# Altium schematic symbol library 20210518.SchLib: 325 symbols (part 1 of 3)
Pins are listed as number, name and electrical type; pins without a type are passive.

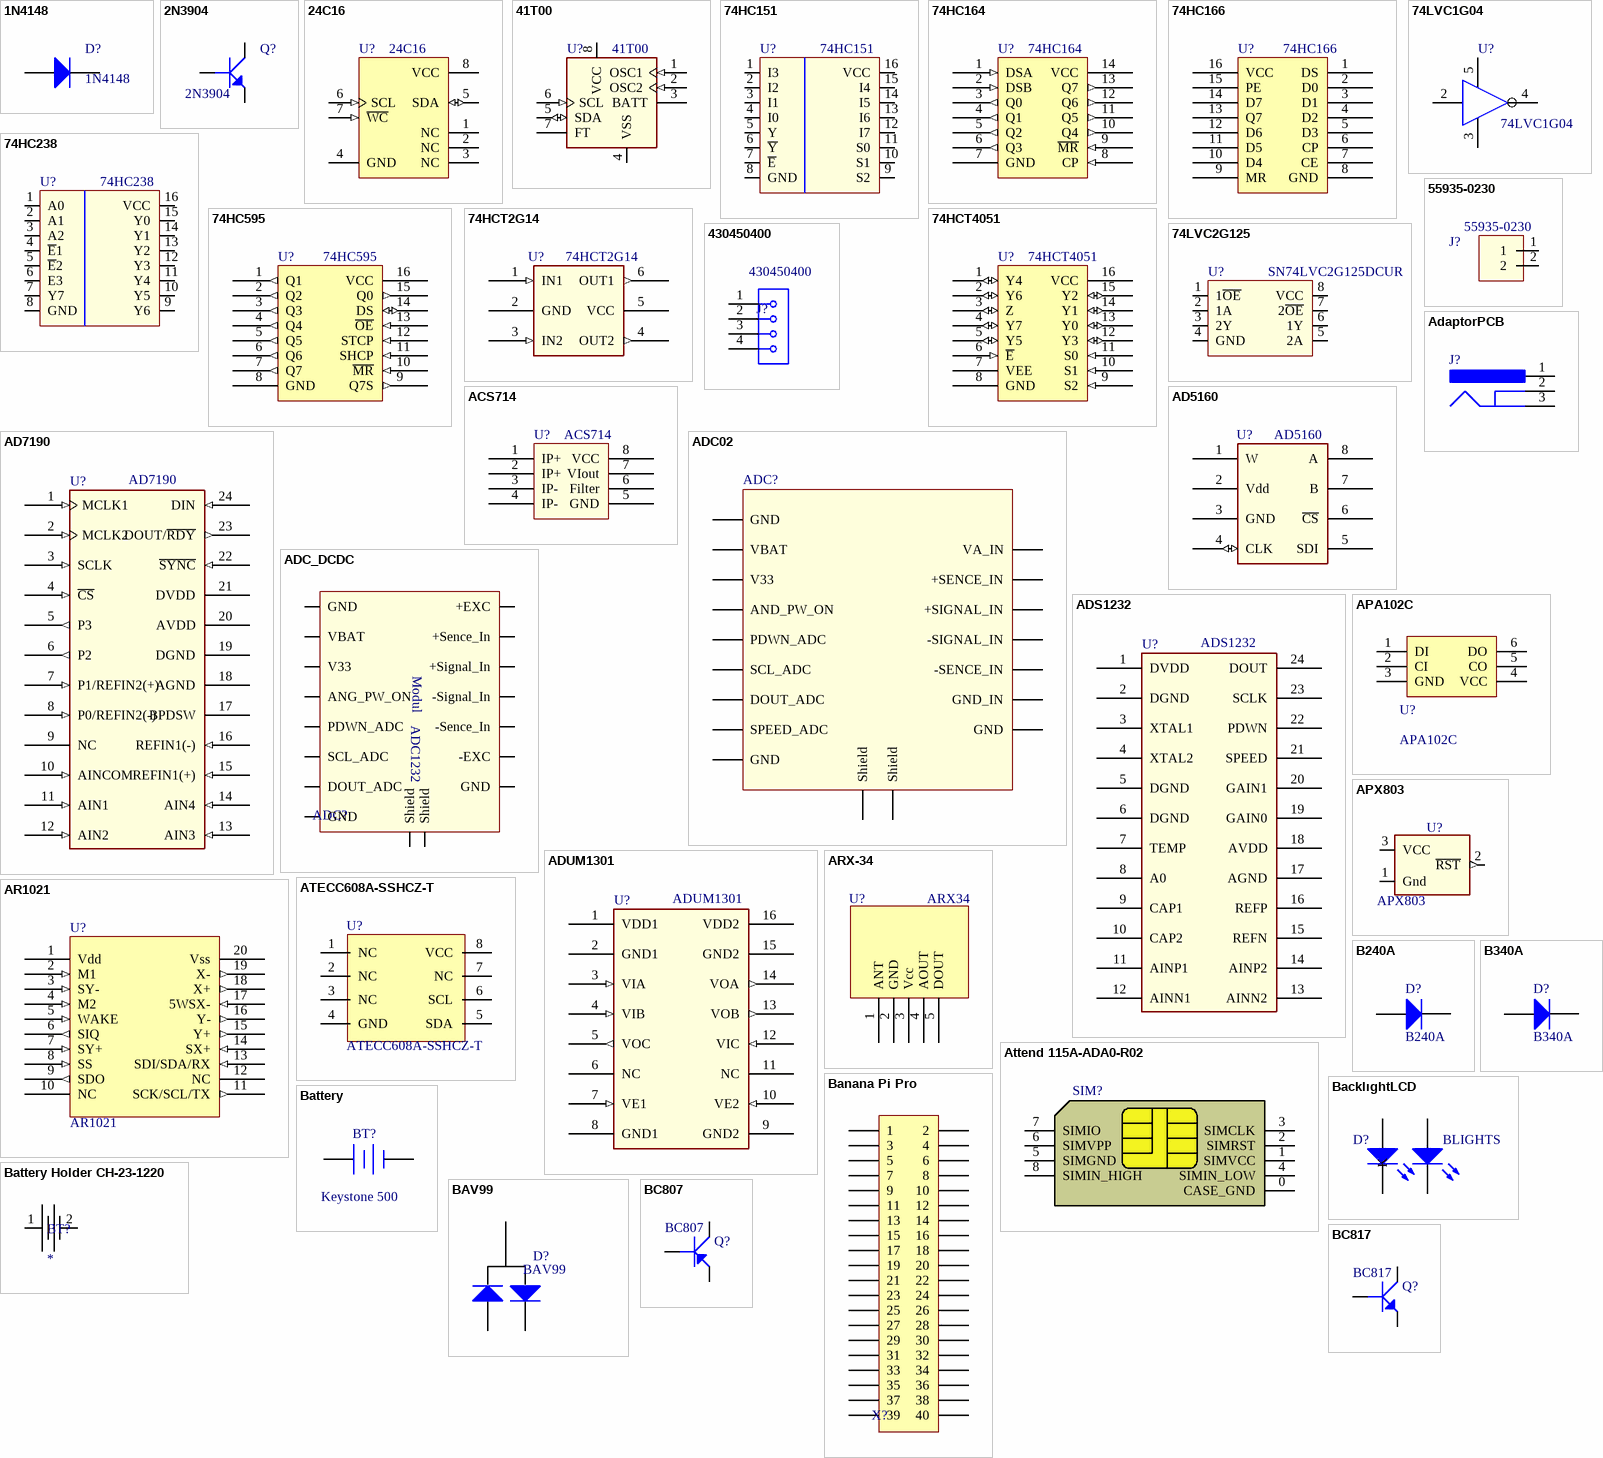
[diagram p0: symbols 1N4148 to BC817]

## 1N4148
designator D?
Diode, 1N4148; ComponentLink3Description: EDIY1N4148SMD; ComponentLink2Description: SMD; Value: 1N4148
simulation model DIODE (Diode)
signal-integrity model Diode
footprint MINIMELF (MELF Diode, 2-Leads, Body 3,5x1,5mm, IPC Low Density)
footprint DO-41 (Diode, Axial; Body 5.2 x 2.7 mm (LxDia. max), Lead Dia. 0.86 mm (max))
footprint SOD323 (SODFL, 2-Leads, Body 1,30x5,35mm, IPC Medium Density)
footprint SOD123
pins: 1 K, 2 A

## 2N3904
designator Q?
Transistor, 2N3904; ComponentLink3Description: ETR2N3904; ComponentLink2Description: AX; Value: 2N3904
footprint TO-92 (TO-92; 3 In-Line, Axial Leads; Body Dia. 4.8mm; Leads 0.55 x 0.51 mm (max))
pins: 1 E, 2 B, 3 C

## 24C16
designator U?
16Kbit Serial I²C Bus EEPROM; Producer: ST; ComponentLink2Description: SMD; ComponentLink3Description: EIC24C16SMD; Value: 24C16
footprint SOIC8 (SOIC, 8-Leads, Body 5,0x4,0mm (max), Pitch 1,27mm, IPC Low Density)
pins: 1 NC, 2 NC, 3 NC, 4 GND (power), 5 SDA (io), 6 SCL (in), 7 ~{WC} (in), 8 VCC (power)

## 41T00
designator U?
Real Time Clock; Producer: ST; ComponentLink2Description: SMD; ComponentLink3Description: EIC41T00SMD; Value: 41T00
footprint SOIC8 (SOIC, 8-Leads, Body 5,0x4,0mm (max), Pitch 1,27mm, IPC Low Density)
pins: 1 OSC1 (in), 2 OSC2 (in), 3 BATT (power), 4 VSS (power), 5 SDA (io), 6 SCL (in), 7 FT, 8 VCC (power)

## 74HC151
designator U?
8-input multiplexer; Producer: NXP; ComponentLink2Description: SMD; Datasheet: http://cache.nxp.com/documents/data_sheet/74HC_HCT151_Q100.pdf?pspll=1; Value: 74HC151
footprint TSSOP16 (TSSOP, 16-Leads, Body 5,00x4,40mm, Pitch 0,65mm, IPC Medium Density)
pins: 1 I3, 2 I2, 3 I1, 4 I0, 5 Y, 6 ~{Y}, 7 ~{E}, 8 GND, 9 S2, 10 S1, 11 S0, 12 I7, 13 I6, 14 I5, 15 I4, 16 VCC

## 74HC164
designator U?
8-bit serial-in, parallel-out shift register; Value: 74HC164
footprint SOIC14 (SOIC, 14-Leads, Body 8,8x4,0mm (max), Pitch 1,27mm, IPC Low Density)
pins: 1 DSA (in), 2 DSB (in), 3 Q0 (out), 4 Q1 (out), 5 Q2 (out), 6 Q3 (out), 7 GND (power), 8 CP (in), 9 ~{MR} (in), 10 Q4 (out), 11 Q5 (out), 12 Q6 (out), 13 Q7 (out), 14 VCC (power)

## 74HC166
designator U?
Shift Register; Tip: SMD; ComponentLink2Description: SMD; ComponentLink3Description: EIC74HC166SMD; Value: 74HC166
footprint SOIC16 (SOIC, 16-Leads, Body 10,0x4,0mm (max), Pitch 1,27mm, IPC Low Density)
pins: 1 DS, 2 D0, 3 D1, 4 D2, 5 D3, 6 CP, 7 CE, 8 GND, 9 MR, 10 D4, 11 D5, 12 D6, 13 Q7, 14 D7, 15 PE, 16 VCC

## 74HC238
designator U?
3-to-8 line decoder/demultiplexer; Producer: NXP; ComponentLink2Description: SMD; Datasheet: http://www.nxp.com/documents/data_sheet/74HC_HCT238.pdf; Value: 74HC238
footprint TSSOP16 (TSSOP, 16-Leads, Body 5,00x4,40mm, Pitch 0,65mm, IPC Medium Density)
pins: 1 A0, 2 A1, 3 A2, 4 ~{E}1, 5 ~{E}2, 6 E3, 7 Y7, 8 GND, 9 Y6, 10 Y5, 11 Y4, 12 Y3, 13 Y2, 14 Y1, 15 Y0, 16 VCC

## 74HC595
designator U?
8-bit serial-in, serial or parallel-out shift register with output latches; Value: 74HC595
footprint SOIC16 (SOIC, 16-Leads, Body 10,0x4,0mm (max), Pitch 1,27mm, IPC Low Density)
pins: 1 Q1 (out), 2 Q2 (out), 3 Q3 (out), 4 Q4 (out), 5 Q5 (out), 6 Q6 (out), 7 Q7 (out), 8 GND (power), 9 Q7S (out), 10 ~{MR} (in), 11 SHCP (in), 12 STCP (in), 13 ~{OE} (in), 14 DS (io), 15 Q0 (out), 16 VCC (power)

## 74HCT2G14
designator U?
Dual Inverter with Schmitt-Trigger; ComponentLink2Description: SMD; Link: https://assets.nexperia.com/documents/data-sheet/74HC_HCT2G14.pdf; Value: 74HCT2G14
footprint SOT23-6 (SOT23, 6-Leads, Body 3,0x3,0mm (max), Pitch 0,95mm, IPC Low Density)
pins: 1 IN1 (in), 2 GND (power), 3 IN2 (in), 4 OUT2 (out), 5 VCC (power), 6 OUT1 (out)

## 74HCT4051
designator U?
8-channel analog multiplexer/demultiplexer; Value: 74HCT4051
footprint SOIC16 (SOIC, 16-Leads, Body 10,0x4,0mm (max), Pitch 1,27mm, IPC Low Density)
pins: 1 Y4 (io), 2 Y6 (io), 3 Z (io), 4 Y7 (io), 5 Y5 (io), 6 ~{E} (in), 7 VEE (power), 8 GND (power), 9 S2 (in), 10 S1 (in), 11 S0 (in), 12 Y3 (io), 13 Y0 (io), 14 Y1 (io), 15 Y2 (io), 16 VCC (power)

## 74LVC1G04
designator U?
Single Inverter Gate; Producer: TI; ComponentLink2Description: SMD; Value: 74LVC1G04
pins: 1 NC hidden, 2 A (hiz), 3 GND (power), 4 Y (hiz), 5 VCC (power)

## 74LVC2G125
designator U?, comment SN74LVC2G125DCUR
IC BUFFER NON-INVERT 5.5V US8; Manufacturer Part Number: SN74LVC2G125DCUR
footprint DCU (S-PDSO-G8) (PowerPAD PLASTIC  SMALL OUTLINE)
pins: 1 1~{OE}, 2 1A, 3 2Y, 4 GND, 5 2A, 6 1Y, 7 2~{OE}, 8 VCC

## 55935-0230
designator J?
Connector Header Through Hole, Right Angle 2 position 0.079" (2.00mm)
footprint 55935-0230
pins: 1, 2

## 430450400
designator J?
Connector Header Through Hole, Right Angle 4 position 0.118" (3.00mm)
footprint 0430450400
pins: 1, 2, 3, 4

## ACS714
designator U?
Linear Hall Effect Current Sensor 5A; ComponentLink2Description: SMD; ComponentLink3Description: *; Value: ACS714
footprint SOIC8 (SOIC, 8-Leads, Body 5,0x4,0mm (max), Pitch 1,27mm, IPC Low Density)
pins: 1 IP+, 2 IP+, 3 IP-, 4 IP-, 5 GND, 6 Filter, 7 VIout, 8 VCC

## AD5160
designator U?
Analog Devices SPI Digital Potentiometer; ComponentLink2Description: SMD; Value: AD5160
footprint SOT23-8 (SOT 8-Leads, Body 2,90x1,60mm, Pitch 1,27mm, IPC Medium Density)
pins: 1 W, 2 Vdd (power), 3 GND (power), 4 CLK (io), 5 SDI (power), 6 ~{CS} (power), 7 B, 8 A

## AD7190
designator U?
24bit Sigma Delta ADC; Producer: Analog Devices; ComponentLink2Description: SMD; Value: AD7190
footprint TSOP24 (TSOP, 24-Leads, Body 7,9x4,5mm (max), Pitch 0,65mm, IPC Low Density)
pins: 1 MCLK1 (in), 2 MCLK2 (in), 3 SCLK (in), 4 ~{CS} (in), 5 P3 (out), 6 P2 (out), 7 P1/REFIN2(+) (in), 8 P0/REFIN2(-) (in), 9 NC, 10 AINCOM (in), 11 AIN1 (in), 12 AIN2 (in), 13 AIN3 (in), 14 AIN4 (in), 15 REFIN1(+) (in), 16 REFIN1(-) (in), 17 BPDSW (power), 18 AGND (power), 19 DGND (power), 20 AVDD (power), 21 DVDD (power), 22 ~{SYNC} (in), 23 DOUT/~{RDY} (out), 24 DIN (in)

## AdaptorPCB
designator J?
footprint AdaptorPCB (THD, 3-Leads)
pins: 1, 2, 3

## ADC02
designator ADC?
TEM ADC Modülü; Producer: TEM Terazi; ComponentLink2Description: DIP
footprint ADS1232-g318 (TEM Terazi ADC Modülü)
footprint ADS1232-g318 - 1mm (TEM Terazi ADC Modülü)
pins: 1 GND, 2 VBAT, 3 V33, 4 AND_PW_ON, 5 PDWN_ADC, 6 SCL_ADC, 7 DOUT_ADC, 8 SPEED_ADC, 9 GND, 10 GND, 11 GND_IN, 12 -SENCE_IN, 13 -SIGNAL_IN, 14 +SIGNAL_IN, 15 +SENCE_IN, 16 VA_IN, 17 Shield, 18 Shield

## ADC_DCDC
designator ADC?  (value not drawn)
ADC_DCDC Modulü; Producer: TEM; Value: ADC_DCDC; ComponentLink2Description: AX; DataSheet: -
footprint ADC_DCDC (ADC_DCDC Modulü Oval)
pins: 1 GND, 2 VBAT, 3 V33, 4 ANG_PW_ON, 5 PDWN_ADC, 6 SCL_ADC, 7 DOUT_ADC, 8 GND, 9 Shield, 10 Shield, 11 +EXC, 12 +Sence_In, 13 +Signal_In, 14 -Signal_In, 15 -Sence_In, 16 -EXC, 17 GND
text: Modul; ADC1232

## ADS1232
designator U?
24bit Sigma Delta ADC; Producer: Texas Inst.; ComponentLink3Description: EICADS1232; ComponentLink2Description: SMD; Value: ADS1232
footprint TSOP24 (TSOP, 24-Leads, Body 7,9x4,5mm (max), Pitch 0,65mm, IPC Low Density)
pins: 1 DVDD (power), 2 DGND (power), 3 XTAL1, 4 XTAL2, 5 DGND (power), 6 DGND (power), 7 TEMP, 8 A0, 9 CAP1, 10 CAP2, 11 AINP1, 12 AINN1, 13 AINN2, 14 AINP2, 15 REFN, 16 REFP, 17 AGND (power), 18 AVDD (power), 19 GAIN0, 20 GAIN1, 21 SPEED, 22 PDWN, 23 SCLK, 24 DOUT

## ADUM1301
designator U?
Triple-Channel Digital Isolator; Producer: Analog Devices; ComponentLink3Description: EICADUM1301; ComponentLink2Description: SMD; Value: ADUM1301
footprint SOIC16W (SOIC, 16-Leads, Body 10.5x7.6mm (max), Pitch 1.27mm, IPC Medium Density)
pins: 1 VDD1 (power), 2 GND1 (power), 3 VIA (in), 4 VIB (in), 5 VOC (out), 6 NC, 7 VE1 (in), 8 GND1 (power), 9 GND2 (power), 10 VE2 (in), 11 NC, 12 VIC (in), 13 VOB (out), 14 VOA (out), 15 GND2 (power), 16 VDD2 (power)

## APA102C
designator U?
RGB Full Color LED control IC
footprint SMD LX5050RGB
pins: 1 DI, 2 CI, 3 GND, 4 VCC, 5 CO, 6 DO

## APX803
designator U?
3.3V Reset entegresi; ComponentLink3Description: EICAPX803; ComponentLink2Description: SMD; Value: APX803
footprint SOT23-3 (SOT23, 3-Leads, Body 3,0x2,5mm (max), Pitch 0,95mm, IPC Low Density)
pins: 1 Gnd (power), 2 ~{RST} (out), 3 VCC

## AR1021
designator U?
Resistive Touch Screen Controller; Value: AR1021
pins: 1 Vdd (power), 2 M1 (in), 3 SY- (in), 4 M2 (in), 5 WAKE (in), 6 SIQ (out), 7 SY+ (in), 8 SS (in), 9 SDO (out), 10 NC, 11 SCK/SCL/TX (out), 12 NC, 13 SDI/SDA/RX (in), 14 SX+ (in), 15 Y+ (out), 16 Y- (out), 17 5WSX- (in), 18 X+ (out), 19 X- (out), 20 Vss (power)

## ARX-34
designator U?, comment ARX34
UDEA Receiver; ComponentLink2Description: AX; ComponentLink3Description: *; Value: ARX34
footprint ARX-34 (Udea ARX-34, 0.54mm)
pins: 1 ANT, 2 GND, 3 Vcc, 4 AOUT, 5 DOUT

## ATECC608A-SSHCZ-T
designator U?
Authentication Chip 8-SOIC
footprint SOIC8 (SOIC, 8-Leads, Body 5,0x4,0mm (max), Pitch 1,27mm, IPC Low Density)
pins: 1 NC, 2 NC, 3 NC, 4 GND, 5 SDA (oc), 6 SCL, 7 NC, 8 VCC

## Attend 115A-ADA0-R02
designator SIM?, comment SIM Connector - Push/Push - Attend 115A-ADA0-R02  (value not drawn)
footprint Push Push SIM Holder (Attend Push Push Type SIM Holder)
pins: 0 CASE_GND, 1 SIMVCC, 2 SIMRST, 3 SIMCLK, 4 SIMIN_LOW, 5 SIMGND, 6 SIMVPP, 7 SIMIO, 8 SIMIN_HIGH

## B240A
designator D?
DIODE SCHOTTKY 40V 2A SOD123F
footprint SOD123F
pins: 1, 2

## B340A
designator D?
DIODE SCHOTTKY 40V 3A SMA
footprint DO-214AC-SMA (No Polarity)
pins: 1, 2

## BacklıghtLCD
designator D?, comment BLIGHTS
LCD18-6D_BLAZE Numune gelenler; ComponentLink2Description: AX; ComponentLink3Description: *
footprint BLight_Blaze (Blaze'den gelen numune backlight)
footprint BACKLIGHT_EKO (BackLight - EKO)
pins: 1 A, 2 K, 3 K, 4 A

## Banana Pi Pro
designator X?, comment Banana PRO  (value not drawn)
Banana Pro GPIO  with 3D Model; Value: Banana PRO
footprint Banana Pi Pro
pins: 1, 2, 3, 4, 5, 6, 7, 8, 9, 10, 11, 12, 13, 14, 15, 16, 17, 18, 19, 20, 21, 22, 23, 24, 25, 26, 27, 28, 29, 30, 31, 32, 33, 34, 35, 36, 37, 38, 39, 40

## Battery
designator BT?, comment Keystone 500
Multicell Battery; Producer: Keystone; ComponentLink3Description: EKONPILBUTON; ComponentLink2Description: AX; Value: Keystone 500
footprint BAT_HLD_500 (Battery Holder, Keystone 500)
pins: 1 -, 2 +

## Battery Holder CH-23-1220
designator BT?
footprint BAT_HLD_2032 (Battery Holder (Open) Coin, 20.0mm 1 Cell PC Pin)
pins: 1 +, 2 -

## BAV99
designator D?
Small Signal Diode; Value: BAV99
footprint SOT23-3 (SOT23, 3-Leads, Body 3,0x2,5mm (max), Pitch 0,95mm, IPC Low Density)
pins: 1 A, 2 K, 3

## BC807
designator Q?
Transistor, BC807; ComponentLink2Description: SMD; ComponentLink3Description: ETRBC807; Value: BC807
footprint SOT23-3 (SOT23, 3-Leads, Body 3,0x2,5mm (max), Pitch 0,95mm, IPC Low Density)
pins: 1 B, 2 E, 3 C

## BC817
designator Q?
Transistor, BC817; ComponentLink2Description: SMD; ComponentLink3Description: ETRBC817; Value: BC817
footprint SOT23-3 (SOT23, 3-Leads, Body 3,0x2,5mm (max), Pitch 0,95mm, IPC Low Density)
pins: 1 B, 2 E, 3 C

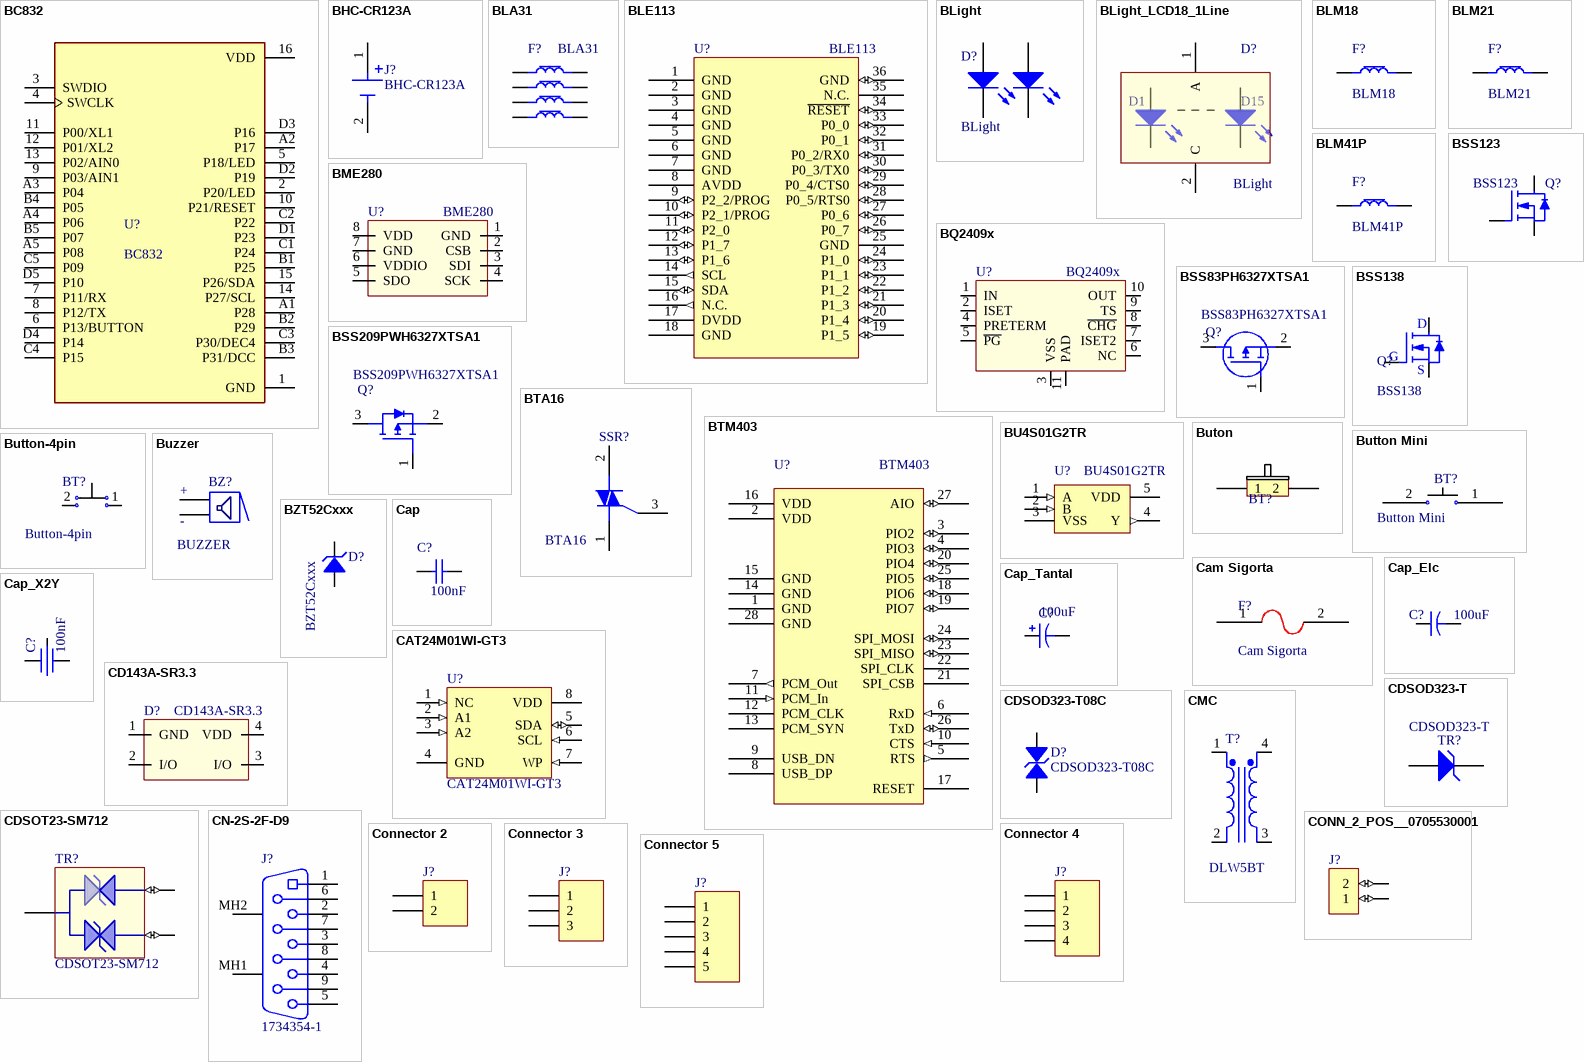
[diagram p1: symbols BC832 to Connector 5]

## BC832
designator U?
Bluetooth Bluetooth v5.0 Transceiver Module 2.4GHz Integrated, Chip Surface Mount
footprint BC832 (Bluetooth Bluetooth v5.0 Transceiver Module 2.4GHz Integrated, Chip Surface Mount)
pins: 1 GND (power), 2 P20/LED (oc), 3 SWDIO (oc), 4 SWCLK (oc), 5 P18/LED (oc), 6 P13/BUTTON (oc), 7 P11/RX (oc), 8 P12/TX (oc), 9 P03/AIN1 (oc), 10 P21/RESET (oc), 11 P00/XL1 (oc), 12 P01/XL2 (oc), 13 P02/AIN0 (oc), 14 P27/SCL (oc), 15 P26/SDA (oc), 16 VDD (power), A1 P28 (oc), A2 P17 (oc), A3 P04 (oc), A4 P06 (oc), A5 P08 (oc), B1 P25 (oc), B2 P29 (oc), B3 P31/DCC (oc), B4 P05 (oc), B5 P07 (oc), C1 P24 (oc), C2 P22 (oc), C3 P30/DEC4 (oc), C4 P15 (oc), C5 P09 (oc), D1 P23 (oc), D2 P19 (oc), D3 P16 (oc), D4 P14 (oc), D5 P10 (oc)

## BHC-CR123A
designator J?
Battery Holder (Open) CR123A 1 Cell PC Pin
footprint BHC-CR123A (Battery Holder (Open) CR123A 1 Cell PC Pin)
pins: 1 +, 2 -

## BLA31
designator F?
Ferrite Bead x 4, BLA31; Producer: Murata; ComponentLink2Description: SMD; ComponentLink3Description: EEMCBLA31; Value: BLA31
footprint Fx4.1206 (4xFerrite Berad, Body 3.2x1.6mm, IPC High Density)
pins: 1, 2, 3, 4, 5, 6, 7, 8

## BLE113
designator U?
Bluegiga Bluetooth Low Energy Module; Value: BLE113
footprint BLE113
pins: 1 GND (power), 2 GND (power), 3 GND (power), 4 GND (power), 5 GND (power), 6 GND (power), 7 GND (power), 8 AVDD (power), 9 P2_2/PROG (io), 10 P2_1/PROG (io), 11 P2_0 (io), 12 P1_7 (io), 13 P1_6 (io), 14 SCL (out), 15 SDA (io), 16 N.C. (out), 17 DVDD (power), 18 GND (power), 19 P1_5 (io), 20 P1_4 (io), 21 P1_3 (io), 22 P1_2 (io), 23 P1_1 (io), 24 P1_0 (io), 25 GND (power), 26 P0_7 (io), 27 P0_6 (io), 28 P0_5/RTS0 (io), 29 P0_4/CTS0 (io), 30 P0_3/TX0 (io), 31 P0_2/RX0 (io), 32 P0_1 (io), 33 P0_0 (io), 34 ~{RESET} (io), 35 N.C., 36 GND (io)

## BLight
designator D?
Numune backlight; Tip: Axial; TemKodu: *; Value: BLight
footprint BLight (pazarcı tipi ile gelen)
footprint BLight (pazarcı tipi ile gelen)
pins: 1 A, 2 C, 3 A, 4 C

## BLight_LCD18_1Line
designator D?, comment BLight
LCD18D_1Line BackLight; Tip: Axial; TemKodu: *; Value: BLight
footprint BLight (pazarcı tipi ile gelen)
footprint BLight (pazarcı tipi ile gelen)
pins: 1 A, 2 C
text: D1; D15

## BLM18
designator F?
Ferrite Bead, BLM18; Producer: Murata; ComponentLink2Description: SMD; ComponentLink3Description: EEMCBLM18; Value: BLM18
footprint L.0603 (Ferrite Bead, Body 1.6x0.8mm, IPC High Density)
pins: 1, 2

## BLM21
designator F?
Ferrite Bead, BLM21; Producer: Murata; ComponentLink2Description: SMD; ComponentLink3Description: EEMCBLM21; Value: BLM21
footprint F.0805 (Ferrite Bead, Body 2.0x1.3mm, IPC High Density)
pins: 1, 2

## BLM41P
designator F?
Ferrite Bead, BLM41P; Producer: Murata; ComponentLink2Description: SMD; ComponentLink3Description: EEMCBLM41; Value: BLM41P
footprint F.1806 (Ferrite Bead, Body 4.5x1.6mm, IPC High Density)
pins: 1, 2

## BME280
designator U?
Combined humidity and pressure sensor; Datasheet: https://ae-bst.resource.bosch.com/media/_tech/media/datasheets/BST-BME280-DS002.pdf; Mouser: https://eu.mouser.com/ProductDetail/Bosch-Sensortec/BME280?qs=2OnyuXx6vpj2fK9HX7qb3g%3D%3D
footprint BME280
pins: 1 GND, 2 CSB, 3 SDI, 4 SCK, 5 SDO, 6 VDDIO, 7 GND, 8 VDD

## BQ2409x
designator U?
Single-Input, Single Cell Li-Ion and Li-Pol Battery Charger; Producer: Texas Instruments; ComponentLink2Description: SMD; Datasheet: http://www.ti.com/lit/ds/symlink/bq24092.pdf; Value: BQ2409x
footprint MSOP-Power Pad
footprint MSOP-Power Pad
pins: 1 IN, 2 ISET, 3 VSS, 4 PRETERM, 5 ~{PG}, 6 NC, 7 ISET2, 8 ~{CHG}, 9 TS, 10 OUT, 11 PAD

## BSS83PH6327XTSA1
designator Q?
P-Channel 60V 330mA (Ta) 360mW (Ta) Surface Mount SOT-23-3
footprint SOT23-3_SC70-3 (SOT23, 3-Leads, Body 3,0x2,5mm (max), Pitch 0,95mm, IPC Low Density)
pins: 1 G (oc), 2 S (oc), 3 D (oc)

## BSS123
designator Q?
N Channel MOSFET; Producer: Diodes Inc.; ComponentLink2Description: SMD; ComponentLink3Description: ETRDMP2305U; Value: BSS123
footprint SOT23-3 (SOT23, 3-Leads, Body 3,0x2,5mm (max), Pitch 0,95mm, IPC Low Density)
pins: 1 G, 2 S, 3 D

## BSS138
designator Q?
N-Channel Logic Level Enhancement Mode Field Effect Transistor; Producer: FAIRCHILD; ComponentLink2Description: SMD; Datasheet: http://www.mouser.com/ds/2/149/BSS138-39381.pdf; Value: BSS138
footprint SOT23-3 (SOT23, 3-Leads, Body 3,0x2,5mm (max), Pitch 0,95mm, IPC Low Density)
pins: 1 G, 2 S, 3 D

## BSS209PWH6327XTSA1
designator Q?
P-Channel 20 V 630mA (Tc) 300mW (Ta) Surface Mount PG-SOT323-3
footprint SOT23-3_SC70-3 (SOT23, 3-Leads, Body 3,0x2,5mm (max), Pitch 0,95mm, IPC Low Density)
pins: 1 G (oc), 2 S (oc), 3 D (oc)

## BTA16
designator SSR?
Triac; ComponentLink2Description: AX; ComponentLink3Description: ETACBTA16; Value: BTA16
footprint TO220 - yatik
pins: 1 M1, 2 M2, 3 G

## BTM403
designator U?
FlairComm Bluetooth Module; Producer: FlairComm; ComponentLink2Description: SMD; Value: BTM403
footprint BTM403 (Bluetooth Module)
pins: 1 GND (power) "Digital Ground", 2 VDD (power) "Digital Power", 3 PIO2 (io) "I/O", 4 PIO3 (io) "I/O", 5 RTS (out) "Uart RTS", 6 RxD (in) "Uart RxD", 7 PCM_Out (out) "Uart TxD", 8 USB_DP, 9 USB_DN, 10 CTS (in) "Uart CTS", 11 PCM_In (in) "PCM  IN", 12 PCM_CLK, 13 PCM_SYN, 14 GND (power) "Ground", 15 GND (power), 16 VDD (power), 17 RESET (oc), 18 PIO6 (io), 19 PIO7 (io), 20 PIO4 (io), 21 SPI_CSB, 22 SPI_CLK, 23 SPI_MISO (io), 24 SPI_MOSI (io), 25 PIO5 (io) "SPI_MOSI", 26 TxD (io) "I/O", 27 AIO (io) "Analog I/O", 28 GND (power) "Ground"

## BU4S01G2TR
designator U?
2Input 1Output NOR Gate; Producer: ROHM; ComponentLink2Description: SMD; Value: BU4S01G2TR
footprint SOT23-5 (SOT23, 5-Leads, Body 3,0x3,0mm (max), Pitch 0,95mm, IPC Low Density)
pins: 1 A (in), 2 B (in), 3 VSS (power), 4 Y (out), 5 VDD (power)

## Buton
designator BT?  (value not drawn)
Connector, 2-Pin; Value: Buton; ComponentLink2Description: AX
pins: 1, 2

## Button Mini
designator BT?
Mini Buton; ComponentLink3Description: EBUTONHAYKAS; ComponentLink2Description: AX; Value: Button Mini
footprint Button_Mini
footprint Tactile Button 3
footprint Tactile Button 4 (TMG-325R SWITCH TACT 3.70x6.00 2.50mm 260gF SMT V/T)
pins: 1, 2

## Button-4pin
designator BT?
Tactile Switch 4-Pin; ComponentLink2Description: AX; Value: Button-4pin
footprint Button-4pin (4pin EKO'da kullanılan Buton)
footprint Button-4pin-6mm (6mm*6mm button)
pins: 1, 2, 3 hidden, 4 hidden

## Buzzer
designator BZ?, comment BUZZER
Magnetic Transducer Buzzer; ComponentLink2Description: AX; Value: BUZZER
footprint STD_RAD_10PX1HLX22DX8.5 (Standard Radial, 10mm pin space, 1mm Hole, 22mm diametre, 8.5mm height)
footprint Buzzer_DC_AI-1223-TWT-3V-2-R (AUDIO MAGNETIC INDICATOR 2-4V TH)
footprint Buzzer_DC_GT-111P (AUDIO MAGNETIC XDCR 1-4V TH)
pins: 1, 2
1 alternate drawing of the same symbol
text: +; -

## BZT52Cxxx
designator D?
500mV Zener Diode
footprint SOD123
pins: 1 T1, 2 T2

## Cam Sigorta
designator F?
2A Cam Sigorta; ComponentLink2Description: AX; ComponentLink3Description: ESICAM2A250V; Value: Cam Sigorta
footprint fuse
pins: 1, 2

## Cap
designator C?, comment 100nF
Capacitor, non polarized; ComponentLink2Description: SMD; ComponentLink3Description: EC0100NSSMD; Value: 100nF
simulation model CAP (Capacitor)
signal-integrity model Cap
footprint C.0603 (Chip Capacitor, Body 1.6x0.8mm, IPC High Density)
footprint C.0805 (Chip Capacitor, Body 2.0x1.3mm, IPC High Density)
footprint C.1210M (Chip Capacitor, Body 3.2x2.5mm, IPC Low Density)
footprint C.1210L (Chip Capacitor, Body 3.2x2.5mm, IPC High Density)
footprint C.1210N (Chip Capacitor, Body 3.2x2.5mm, IPC Medium Density)
footprint CAP_5.08Px0.8HLx7.8Lx3.2Wx6H (Capacitor, Ceramic, Thru-Hole, Dipped Radial; Body 7.8 x 3.2 mm (WxT) Pin Spacing 5.08 mm (typ))
footprint C.1206 (Chip Capacitor, 2-Leads, Body 3,2x1,6mm, IPC Low Density)
footprint C.2825 (Chip Capacitor, 2-Leads, Body 7,1x6,3mm, IPC Low Density)
footprint CAP_MKP (10nF -400V AC MKP)
pins: 1, 2

## Cap_Elc
designator C?, comment 100uF
Capacitor Electrolitic; ComponentLink2Description: SMD; ComponentLink3Description: EC0100UESMD; Value: 100uF
simulation model CAP (Capacitor)
signal-integrity model Cap
footprint CAP_EL_D (Electrolitic Capacitor, D size SMD)
footprint CAP_EL_RAD_5Px0.8HLx10.1Dx15.2H (Electrolitic Radial Capacitor, 5mm pin space, 0.8mm Hole, 10.1mm diametre, 15.2 height)
footprint Cap_El_RAD_8x5 (Cap El 8x5)
footprint CAP_EL_RAD_3.5x8x13
footprint Cap_El_RAD_5x7 (Cap El 5x7)
pins: 1, 2

## Cap_Tantal
designator C?, comment 100uF
Capacitor Tantalum; ComponentLink2Description: SMD; ComponentLink3Description: EC0100UTANTALSMD; Value: 100uF
simulation model CAP (Capacitor)
signal-integrity model Cap
footprint CAP_M_D (Molded Capacitor, 2-Leads, Body 7,3x4,3mm, IPC Low Density)
footprint CAP_M_B (Molded Capacitor, 2-Leads, Body 3,5x2,8mm, IPC Low Density)
footprint CAP_M_A (Molded Capacitor, 2-Leads, Body 3,2x1,6mm, IPC Low Density)
footprint CAP_M_C (Molded Capacitor, 2-Leads, Body 6x3.2mm, IPC Low Density)
pins: 1, 2

## Cap_X2Y
designator C?, comment 100nF
Capacitor, non polarized; ComponentLink2Description: SMD; Value: 100nF
simulation model CAP (Capacitor)
pins: 1, 2, 3 G

## CAT24M01WI-GT3
designator U?
Manufacturer Part Number: CAT24M01WI-GT3; Digi-Key Part Number: CAT24M01WI-GT3OSCT-ND
footprint SOIC8 (SOIC, 8-Leads, Body 5,0x4,0mm (max), Pitch 1,27mm, IPC Low Density)
pins: 1 NC (in), 2 A1 (in), 3 A2 (in), 4 GND (power), 5 SDA (io), 6 SCL (in), 7 WP (in), 8 VDD (power)

## CD143A-SR3.3
designator D?
7V Clamp 12A (8/20µs) Ipp Tvs Diode Surface Mount SOT-143
footprint CD143A-SR2.8~3.3
pins: 1 GND, 2 I/O, 3 I/O, 4 VDD

## CDSOD323-T
designator TR?
TVS DIODE; ComponentLink2Description: SMD; Value: CDSOD323-T
footprint SOD323 (SODFL, 2-Leads, Body 1,30x5,35mm, IPC Medium Density)
pins: 1 K, 2 A

## CDSOD323-T08C
designator D?
footprint SOD323_SC76_nonPOL
pins: 1 T1, 2 T2

## CDSOT23-SM712
designator TR?
TVS Array; Producer: Littel Fuse; ComponentLink2Description: SMD; Value: CDSOT23-SM712
footprint SOT23-3 (SOT23, 3-Leads, Body 3,0x2,5mm (max), Pitch 0,95mm, IPC Low Density)
pins: 1 (io), 2 (io), 3 (power)

## CMC
designator T?, comment DLW5BT
Common Mode Choke Coil; Producer: Murata; Value: DLW5BT
footprint CMC_2020 (Common Mode Choke 2020 size)
pins: 1, 2, 3, 4

## CN-2S-2F-D9
designator J?, comment 1734354-1
D-Subminiature Socket, Pitch 1.385 mm, 9 Position, Height 12.5 mm, Tail Length 3.2 mm, RoHS, Tray; Manufacturer: TE Connectivity; Connector Type: Receptacle,FemaleSockets; Number of Positions: 9; Connector Style: D-Sub; Catalog Drawings: AMPD-SubMale.318; 3D Model: 1734354-1.pdf; Flange Feature: MatingSide;FemaleScrewlock(4-40); Other Names: A35107; Current Rating: 2A; Voltage Rating: 250V; Mating Products: AML09B-ND / -CONND-SUBPLUG9POSGOLD; Featured Product: AMPLIMITED-SubminiatureConnectors; Product Training Modules: AMPLIMITED-SubConnectors; Dynamic Catalog: AMPLIMITEHD-20Series; Manufacturer URL: http://www.te.com/; Number of Rows: 2; Contact Type: Signal; RoHS Information: 1734354-1StatementofCompliance; Datasheet URL: http://www.te.com.cn/chn-zh/search.html?q=1734354-1&source=header#pdp-optional-registration; Features: BoardLock; Standard Package: 90; Family: D-SubConnectors; Datasheet Version: Rev. A1, 03/2011; Shell Material, Finish: Steel,NickelPlated; Color: Black; Contact Finish Thickness: Flash; Shell Size, Connector Layout: 1(DE,E); Mounting Type: ThroughHole,RightAngle; Contact Finish: Gold; Termination: Solder; Housing Material: Polyamide(PA9T),Nylon9T,GlassFilled; Operating Temperature: -55degC~105degC; Category: Connectors,Interconnects; Series: AMPLIMITEHD-20
footprint TE-1734354-1-9_V (TH, 9-Leads, Body 30.8x18.4mm, Pitch 2.77mm)
pins: 1, 2, 3, 4, 5, 6, 7, 8, 9, MH1, MH2

## CONN_2_POS__0705530001
designator J?, comment 0705530001  (value not drawn)
CONN HEADER 2POS .100 R/A GOLD; Manufacturer: Molex, LLC; Contact Length - Mating: 0.240" (6.10mm); Number of Positions: 2; Number of Positions Loaded: All; Pitch - Mating: 0.100" (2.54mm); Shrouding: Shrouded - 4 Wall; Category: Connectors, Interconnects; Connector Type: Header; Contact Finish - Mating: Gold; Contact Finish Thickness - Mating: 15µin (0.38µm); Contact Type: Male Pin; Fastening Type: Latch Holder; Features: -; Ingress Protection: -; Insulation Color: Black; Manufacturer Part Number: 0705530001; Mounting Type: Through Hole, Right Angle; Number of Rows: 1; Part Status: Active; Packaging: Tube; RoHS: RoHS Compliant; Row Spacing - Mating: -; Supplier: Digi-Key; Termination: Solder; ComponentLink1URL: http://www.molex.com/pdm_docs/sd/705530001_sd.pdf; ComponentLink1Description: http://www.molex.com/pdm_docs/sd/705530001_sd.pdf; Pricing: 1=0.74, 10=0.651, 50=0.5868, 100=0.5612, 250=0.5102, 500=0.45918, 1000=0.40816, 2500=0.3699, 5000=0.35714 (USD); Supplier Part Number: WM4900-ND
footprint CONN_2_POS__705530001 - duplicate
pins: 1 (io), 2 (io)

## Connector 2
designator J?  (value not drawn)
Connector, 2-Pin; Value: Connector 2; ComponentLink2Description: AX; ComponentLink3Description: EKON2PE
signal-integrity model Connector
footprint Klemens - 2 - 90 (90 Derece 2 Pin Yesil Klemens - 691313510002)
footprint HDR2 (Connector; Header; 2 Position)
footprint HDR2 -3.81mm pitch (Connector; Header; 2 Position)
footprint HDR2 2mm (2.00mm Pitch MicroClasp Wire-to-Board Header, Single Row, Right-Angle, 2 Circuits, without PCB Locator - 55935-0230)
footprint CON_353630260
pins: 1, 2

## Connector 3
designator J?  (value not drawn)
Connector, 3-Pin; Value: Connector 3; ComponentLink2Description: AX; ComponentLink3Description: EKON3PE
signal-integrity model Connector
footprint CON3_2.5Px0.9HLx10Lx5.7Wx7H (Connector; 3 Position, 2.5mm pin space, 0.9mm hole, Body 10x5.7mm, Height 7mm)
footprint KLM_JBOX_3 - 90 (90 Derece 3 Pin Yesil Konnektor)
footprint ADP_JACK (Standart Kullanılan Adaptor Konnektörü 3 Pin)
footprint CON.3BD_L (Adaptör PCB'si Konnektörü)
footprint ADP_JACK - pj-002b (5.5mm Adaptor Konnektörü 3 Pin)
footprint ADP_JACK - pj-102b (5.5mm Adaptor Konnektörü 3 Pin)
footprint Molex_353630360 (2.00mm Pitch Sherlock Wire-to-Board Header, Right-Angle, with Positive Lock, 3 Circuits)
footprint Klemens - 3 - 90 (90 Derece 3 Pin Yesil Klemens - 691313510003)
footprint CON3_2mm_DIP_0559350330 (Connector Header Through Hole, Right Angle 3 position 0.079" (2.00mm))
pins: 1, 2, 3

## Connector 4
designator J?  (value not drawn)
Connector, 4Pin; Value: Connector 4; ComponentLink2Description: AX
signal-integrity model Connector
footprint HDR1X4-1.27mm - Right - 0530480410 (Connector; Header; 7 Position; 1.27mm pitch - 0530480410)
footprint CON_353630460
pins: 1, 2, 3, 4

## Connector 5
designator J?  (value not drawn)
Connector, 5-Pin; Value: Connector 5; ComponentLink2Description: AX; ComponentLink3Description: EKON5PE
signal-integrity model Connector
footprint CON5_2.5Px0.9HLx15Lx5.7Wx7H (Connector; 5 Position, 2.5mm pin space, 0.9mm hole, Body 15x5.7mm, Height 7mm)
footprint KLS_JBOX_5 - 90 (90 Derece 5 Pin Yesil Konnektor)
footprint CON5 (4.5mm aralıklı)
footprint STD-5Pin (Phoenix Contact 5pin 5mm Pitch Standart 1759046)
footprint CONN_5_POS__0530480510
footprint CON5_2.5MM_0705530004 (Connector Header Through Hole, Right Angle 5 position 0.100" (2.54mm))
pins: 1, 2, 3, 4, 5

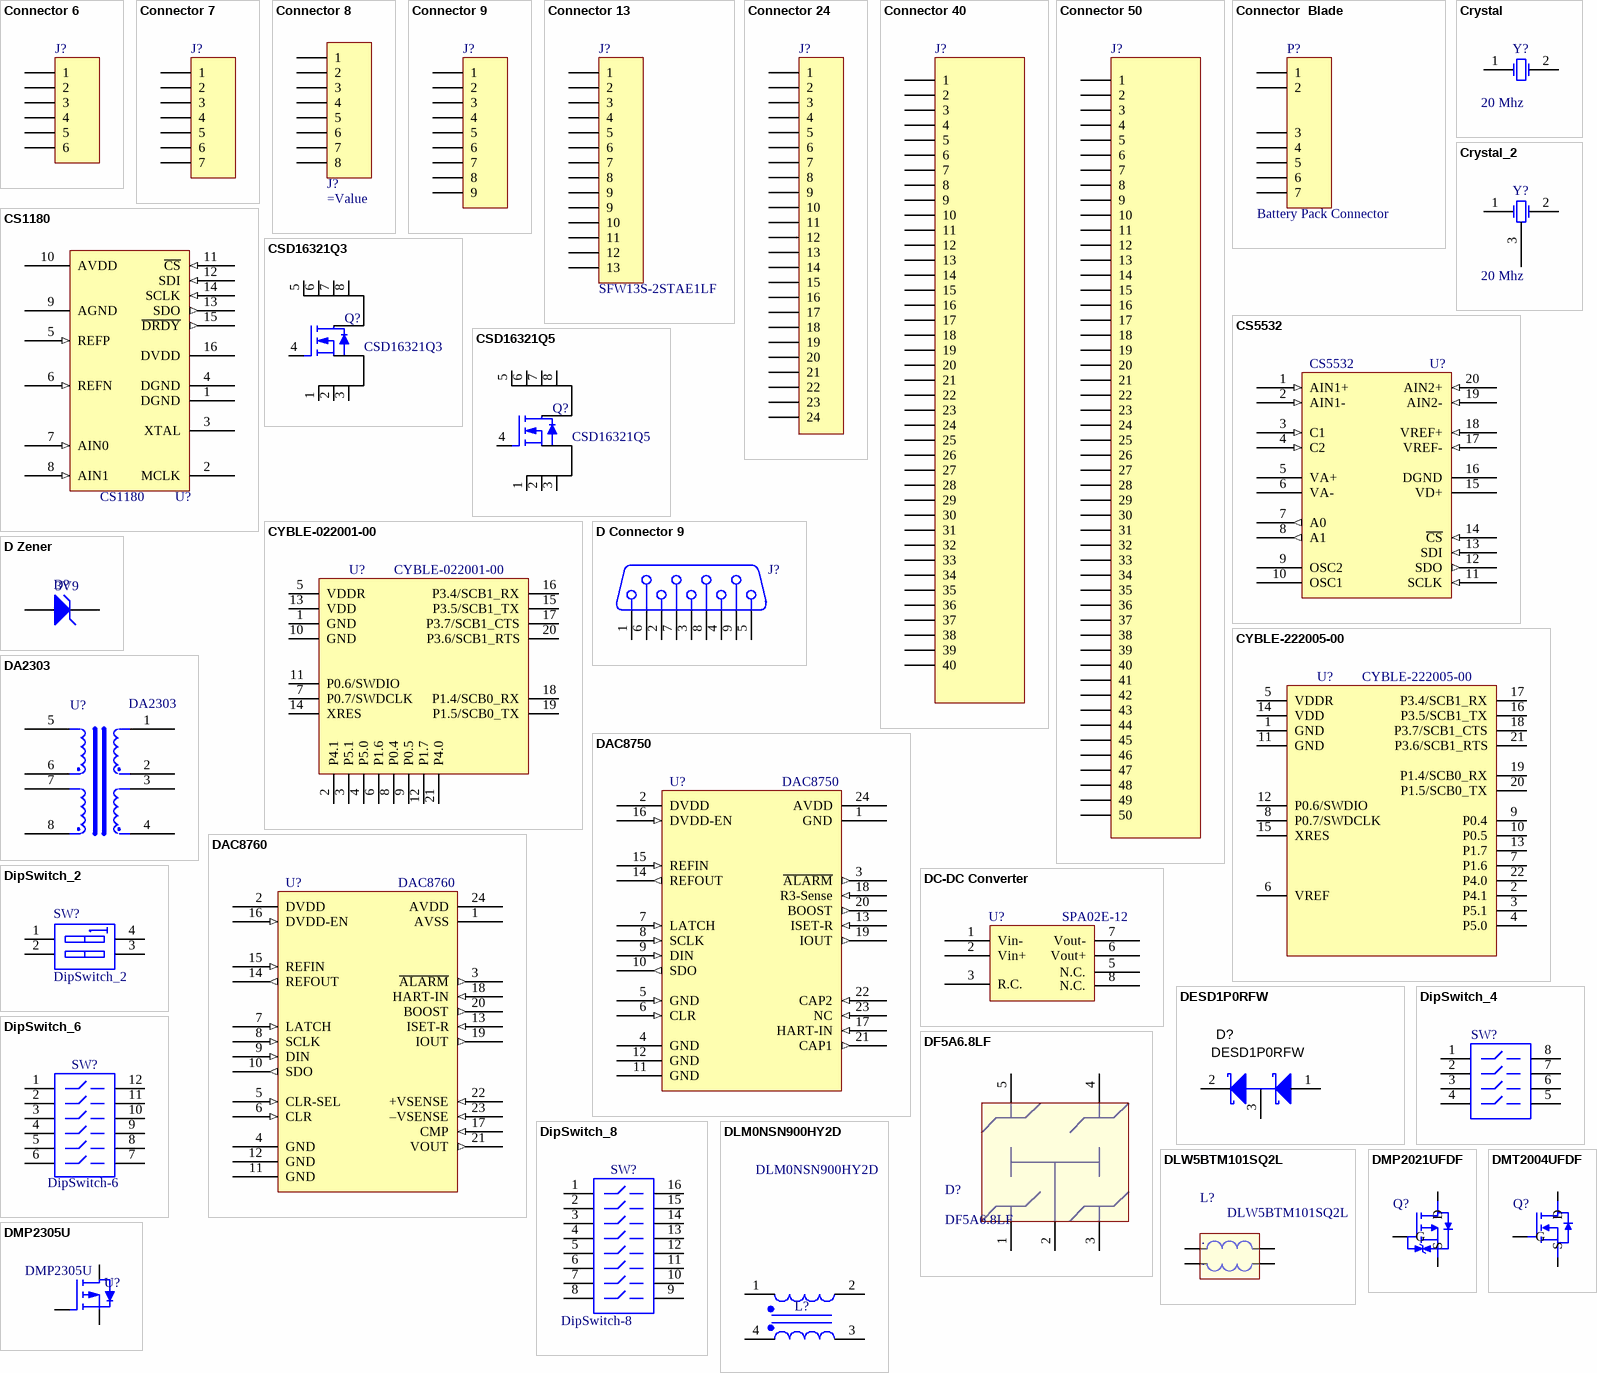
[diagram p2: symbols Connector 6 to DMT2004UFDF]

## Connector 6
designator J?  (value not drawn)
Connector, 6-Pin; Value: Connector 6; ComponentLink2Description: AX
signal-integrity model Connector
pins: 1, 2, 3, 4, 5, 6

## Connector 7
designator J?  (value not drawn)
Connector, 7-Pin; Value: Connector 7; ComponentLink2Description: AX; ComponentLink3Description: EKON7PE
signal-integrity model Connector
footprint CON7_2.5Px0.9HLx20Lx5.7Wx7H (Connector; 7 Position, 2.5mm pin space, 0.9mm hole, Body 20x5.7mm, Height 7mm)
footprint CON7 (4.5mm aralıklı)
footprint CON7_2Px0.8HLx16Lx4.7Wx6.2H (Connector; 7 Position, 2.0mm pin space, 0.8mm hole, Body 16x4.7mm, Height 6.2mm)
footprint CONN_7_POS__0530480710
footprint CON7_1X7_UB_SFW_
pins: 1, 2, 3, 4, 5, 6, 7

## Connector 8
designator J?
Connector, 8-Pin
footprint TapExtenderCON8 (Tap Extender'a Kullanılan Konnektor 8pin)
footprint STD-8Pin (Phoenix Contact 8pin 5.08mm Pitch Standart 1759075)
pins: 1, 2, 3, 4, 5, 6, 7, 8

## Connector 9
designator J?  (value not drawn)
Connector, 9-Pin; Value: Connector 9; ComponentLink2Description: AX
signal-integrity model Connector
footprint CON9_2.5Px0.9HLx20Lx5.7Wx7H (Connector; 9 Position, 2.5mm pin space, 0.9mm hole, Body 20x5.7mm, Height 7mm)
pins: 1, 2, 3, 4, 5, 6, 7, 8, 9

## Connector 13
designator J?, comment SFW13S-2STAE1LF
Connector, 13-Pin; Value: SFW13S-2STAE1LF
footprint CON13_1X13_UB_SF
pins: 1, 2, 3, 4, 5, 6, 7, 8, 9, 9, 10, 11, 12, 13

## Connector 24
designator J?  (value not drawn)
Connector, 24-Pin; Value: Connector 24; ComponentLink2Description: AX
footprint FPC-24 (24 way 0.5 pitch FPC Connector)
pins: 1, 2, 3, 4, 5, 6, 7, 8, 9, 10, 11, 12, 13, 14, 15, 16, 17, 18, 19, 20, 21, 22, 23, 24

## Connector 40
designator J?  (value not drawn)
Connector, 40-Pin; Value: Connector 40; ComponentLink2Description: AX
pins: 1, 2, 3, 4, 5, 6, 7, 8, 9, 10, 11, 12, 13, 14, 15, 16, 17, 18, 19, 20, 21, 22, 23, 24, 25, 26, 27, 28, 29, 30, 31, 32, 33, 34, 35, 36, 37, 38, 39, 40
1 alternate drawing of the same symbol

## Connector 50
designator J?  (value not drawn)
Connector, 50-Pin; Value: Connector 50; ComponentLink2Description: AX
pins: 1, 2, 3, 4, 5, 6, 7, 8, 9, 10, 11, 12, 13, 14, 15, 16, 17, 18, 19, 20, 21, 22, 23, 24, 25, 26, 27, 28, 29, 30, 31, 32, 33, 34, 35, 36, 37, 38, 39, 40, 41, 42, 43, 44, 45, 46, 47, 48, 49, 50
1 alternate drawing of the same symbol

## Connector  Blade
designator P?, comment Battery Pack Connector
Link: http://www.te.com/usa-en/product-1827684-1.html#guest-click; Value: Battery Pack Connector
footprint TE 2mm Pin (2mm pitch Battery Plug Assy. 7Pos. H=4.0)
footprint TE 2mm Pin GENIS (2mm pitch Battery Plug Assy. 7Pos. H=4.0)
footprint TE 2mm SMD Long (2mm pitch Battery Rec. Assy. 7Pos. H=4.0)
footprint TE 2mm SMD Short (2mm pitch Battery Rec. Assy. 7Pos. H=4.0)
pins: 1, 2, 3, 4, 5, 6, 7

## Crystal
designator Y?, comment 20 Mhz
Crystal Oscillator; ComponentLink2Description: AX; ComponentLink3Description: EXTAL20M; Value: 20 Mhz
simulation model XTAL (SUBCKT)
footprint STD_RAD_4.88Px0.6HLx11.5Lx5Wx3.68 (Standart Radial, 2 pin, 4.88mm pin space, 0.6mm Hole, Body 11.5x5mm, 3.68 height)
footprint XTAL_1.27Px2Dx6L (Crystal, 1.27 pin space, yatik)
footprint HC49/4H_SMX (Quartz Crystal, SM; Body 13.4 (inc. leads) x 4.9 mm (LxW max))
pins: 1 OSC1, 2 OSC2

## Crystal_2
designator Y?, comment 20 Mhz
Crystal Oscillator; ComponentLink2Description: AX; Value: 20 Mhz
footprint XTAL (Standart Radial, 2 pin, 4.88mm pin space, 0.6mm Hole, Body 11.5x5mm, 3.68 height)
footprint Xtal_UltraMiniature_4pin (Quartz Crystal, SM; Body 3.20mm x 2.50mm)
pins: 1 OSC1, 2 OSC2, 3

## CS1180
designator U?
Analog to Digital Converter; Producer: ChipSea; ComponentLink2Description: SMD; ComponentLink3Description: EICCS1180SMD; Value: CS1180
footprint SSOP16 (SOP, 16-Leads, Body 6,4x5,5mm (max), Pitch 0,65mm, IPC Medium Density)
pins: 1 DGND (power) "Digital Ground", 2 MCLK, 3 XTAL, 4 DGND (power) "Digital Ground", 5 REFP (in) "Positive Referans", 6 REFN (in) "Negative Referans", 7 AIN0 (in) "Analog Input 0", 8 AIN1 (in) "Analog Input 1", 9 AGND (power) "Analog Ground", 10 AVDD (power) "Analog Power", 11 ~{CS} (in) "Chip Select", 12 SDI (in) "Serial Data Input", 13 SDO (out) "Serial Data Output", 14 SCLK (in) "Serial Clock", 15 ~{DRDY} (out) "Data Ready", 16 DVDD (power) "Digital Power"

## CS5532
designator U?
Analog to Digital Converter; Value: CS5532
footprint SSOP20 (SOP, 20-Leads, Body 7,20x5,30mm, Pitch 0,65mm, IPC Medium Density)
pins: 1 AIN1+ (in) "Differential Analog Input", 2 AIN1- (in) "Differential Analog Input", 3 C1 (in) "Amplifier Capacitor Input", 4 C2 (in) "Amplifier Capacitor Input", 5 VA+ (power) "Positive Analog Power", 6 VA- (power) "Negative Analog Power", 7 A0 (out) "Logic Output", 8 A1 (out) "Logic Output", 9 OSC2 "Master Clock", 10 OSC1 "Master Clock", 11 SCLK (in) "Serial Clock Input", 12 SDO (out) "Serial Data Output", 13 SDI (in) "Serial Data Input", 14 ~{CS} (in) "Chip Select", 15 VD+ (power) "Positive Digital Power", 16 DGND (power) "Digital Ground", 17 VREF- (in) "Voltage Reference Input", 18 VREF+ (in) "Voltage Reference Input", 19 AIN2- (in) "Differential Analog Input", 20 AIN2+ (in) "Differential Analog Input"

## CSD16321Q3
designator Q?
N Channel MOSFET; Producer: Texas; ComponentLink2Description: SMD; ComponentLink3Description: CSD16321Q3; Value: CSD16321Q3
footprint SON 5 × 6-Q3
pins: 1 S, 2 S, 3 S, 4 G, 5 D, 6 D, 7 D, 8 D

## CSD16321Q5
designator Q?
N Channel MOSFET; Producer: Texas; ComponentLink2Description: SMD; ComponentLink3Description: CSD16321Q5; Value: CSD16321Q5
footprint SON 5 × 6-Q5
pins: 1 S, 2 S, 3 S, 4 G, 5 D, 6 D, 7 D, 8 D

## CYBLE-022001-00
designator U?
EZ-BLE™ PRoC™ Module; Value: CYBLE-022001-00; ComponentLink3Description: EICBLUECYBLE-022001; ComponentLink2Description: SMD
footprint CYBLE-022001-00 (EZ-BLE™ PRoC™ Module)
pins: 1 GND, 2 P4.1, 3 P5.1, 4 P5.0, 5 VDDR, 6 P1.6, 7 P0.7/SWDCLK, 8 P0.4, 9 P0.5, 10 GND, 11 P0.6/SWDIO, 12 P1.7, 13 VDD, 14 XRES, 15 P3.5/SCB1_TX, 16 P3.4/SCB1_RX, 17 P3.7/SCB1_CTS, 18 P1.4/SCB0_RX, 19 P1.5/SCB0_TX, 20 P3.6/SCB1_RTS, 21 P4.0

## CYBLE-222005-00
designator U?
EZ-BLE™ PRoC™ Module, flash: 256KB; Value: CYBLE-222005-00; ComponentLink3Description: EICBLUECYBLE-222005; ComponentLink2Description: SMD
footprint CYBLE-222005-00 (EZ-BLE™ PRoC™ Module, flash: 256KB)
pins: 1 GND, 2 P4.1, 3 P5.1, 4 P5.0, 5 VDDR, 6 VREF, 7 P1.6, 8 P0.7/SWDCLK, 9 P0.4, 10 P0.5, 11 GND, 12 P0.6/SWDIO, 13 P1.7, 14 VDD, 15 XRES, 16 P3.5/SCB1_TX, 17 P3.4/SCB1_RX, 18 P3.7/SCB1_CTS, 19 P1.4/SCB0_RX, 20 P1.5/SCB0_TX, 21 P3.6/SCB1_RTS, 22 P4.0

## D Connector 9
designator J?
Receptacle Assembly, 9 Position, Right Angle; ComponentLink2Description: SMD
signal-integrity model Connector
footprint DSUB9_FEMALE (Desub; 9 Position, 2.5mm pin space)
footprint DSUB9_MALE (Desub; 9 Position, 2.5mm pin space)
pins: 1, 2, 3, 4, 5, 6, 7, 8, 9

## D Zener
designator D?, comment 3V9
Zener Diode; ComponentLink2Description: SMD; ComponentLink3Description: EZ3V9SMD; Value: 3V9
simulation model ZENER (Diode)
signal-integrity model D Zener
footprint MINIMELF (MELF Diode, 2-Leads, Body 3,5x1,5mm, IPC Low Density)
footprint SOD323 (SODFL, 2-Leads, Body 1,30x5,35mm, IPC Medium Density)
pins: 1 K, 2 A

## DA2303
designator U?
SMT Power Transformer; Producer: Coilcraft; ComponentLink2Description: SMD; Value: DA2303
footprint DA2303 (8-Leads, Body 10.0x8.2mm (max), Pitch 2.00mm, IPC Medium Density)
pins: 1, 2, 3, 4, 5, 6, 7, 8

## DAC8750
designator U?
Analog to Digital Converter (Iout); Value: DAC8750
footprint TSOP24 (TSOP, 24-Leads, Body 7,9x4,5mm (max), Pitch 0,65mm, IPC Low Density)
pins: 1 GND (power), 2 DVDD (power), 3 ~{ALARM} (out), 4 GND (power), 5 GND (in), 6 CLR (in), 7 LATCH (in), 8 SCLK (in), 9 DIN (in), 10 SDO (out), 11 GND (power), 12 GND (power), 13 ISET-R (in), 14 REFOUT (out), 15 REFIN (in), 16 DVDD-EN (in), 17 HART-IN (in), 18 R3-Sense (in), 19 IOUT (out), 20 BOOST (out), 21 CAP1 (out), 22 CAP2 (in), 23 NC (in), 24 AVDD (power)

## DAC8760
designator U?
Analog to Digital Converter (Vout, Iout); Value: DAC8760
footprint TSOP24 (TSOP, 24-Leads, Body 7,9x4,5mm (max), Pitch 0,65mm, IPC Low Density)
pins: 1 AVSS (power), 2 DVDD (power), 3 ~{ALARM} (out), 4 GND (power), 5 CLR-SEL (in), 6 CLR (in), 7 LATCH (in), 8 SCLK (in), 9 DIN (in), 10 SDO (out), 11 GND (power), 12 GND (power), 13 ISET-R (in), 14 REFOUT (out), 15 REFIN (in), 16 DVDD-EN (in), 17 CMP (in), 18 HART-IN (in), 19 IOUT (out), 20 BOOST (out), 21 VOUT (out), 22 +VSENSE (in), 23 –VSENSE (in), 24 AVDD (power)

## DC-DC Converter
designator U?, comment SPA02E-12
Meanwell SPA02E-12 12V 2W DC-DC Çevirici; Value: SPA02E-12
footprint Meanwell SPA02E-12 (MEanwell SPA02E-12 12V Dc-Dc Converter)
pins: 1 Vin-, 2 Vin+, 3 R.C., 5 N.C., 6 Vout+, 7 Vout-, 8 N.C.

## DESD1P0RFW
designator D?
IC TVS ARRAY 1-LINE 70V SOT323; MountType: SMT; PartNumber: DESD1P0RFW; CompType: TVS; Alternate PartNumber: -; Alternate Manufacturer: -
footprint SOT23-3 (SOT23, 3-Leads, Body 3,0x2,5mm (max), Pitch 0,95mm, IPC Low Density)
pins: 1, 2, 3

## DF5A6.8LF
designator D?
TOSHIBA Diodes for Protecting against ESD 4 Channel; ComponentLink2Description: SMD; Datasheet: http://www.digikey.com/product-detail/en/toshiba-semiconductor-and-storage/DF5A6.8LFUTE85LF/DF5A6.8LFUTE85LFCT-ND/4304122; Producer: TOSHIBA; Value: DF5A6.8LF
footprint SOT23-5 (SOT23, 5-Leads, Body 3,0x3,0mm (max), Pitch 0,95mm, IPC Low Density)
pins: 1 Katot, 2 Anot, 3 Anot, 4 Anot, 5 Anot

## DipSwitch_2
designator SW?
DIP Switch, 2 Position, SPST; Published: 24-Mar-1999; LatestRevisionDate: 17-Jul-2002; LatestRevisionNote: Re-released for DXP Platform.; PackageReference: DIP-4; Publisher: Altium Limited
simulation model dpsw2 (Spice Subcircuit)
footprint DIPSWITCH4-RightAngle
pins: 1 A1, 2 A2, 3 B2, 4 B1

## DipSwitch_4
designator SW?, comment DipSwitch 4lü  (value not drawn)
4lü DIP Switch; Value: DipSwitch 4lü
footprint DIPSWITCH4
pins: 1, 2, 3, 4, 5, 6, 7, 8

## DipSwitch_6
designator SW?, comment DipSwitch-6
6 'li DIP Switch; ComponentLink2Description: AX; ComponentLink3Description: EKONDPSWITCH8; Value: DipSwitch-6
footprint DipSwitch6
footprint KAS2106E (Dip Switch SPST 6 Position Through Hole, Right Angle Slide (Standard) Actuator 25mA 24VDC)
footprint A6TR-6104 (Dip Switch SPST 6 Position Through Hole, Right Angle Piano Actuator 25mA 24VDC)
pins: 1, 2, 3, 4, 5, 6, 7, 8, 9, 10, 11, 12

## DipSwitch_8
designator SW?, comment DipSwitch-8
8 'li DIP Switch; ComponentLink2Description: AX; ComponentLink3Description: EKONDPSWITCH8; Value: DipSwitch-8
footprint DipSwitch8
pins: 1, 2, 3, 4, 5, 6, 7, 8, 9, 10, 11, 12, 13, 14, 15, 16

## DLM0NSN900HY2D
designator L?
2 Line Common Mode Choke Surface Mount 90 Ohms @ 100MHz 100mA DCR 5Ohm; Detailed: DLM0NSN900HY2D
footprint DLM0NSNxxxxxxx
pins: 1, 2, 3, 4

## DLW5BTM101SQ2L
designator L?
2 Line CommonModeChoke, SMD 6A
footprint DLW5BTMxxxxxxx (5*5*3mm)
pins: 1 A1, 2 A2, 3 B2, 4 B1
text: .

## DMP2021UFDF
designator Q?  (value not drawn)
P-CHANNEL ENHANCEMENT MODE MOSFET
footprint U-DFN2020-6
pins: 1 D, 2 D, 3 G, 4 S, 5 D, 6 D, 7 D, 8 S

## DMP2305U
designator U?
P Channel MOSFET; Producer: Diodes Inc.; ComponentLink2Description: SMD; ComponentLink3Description: ETRDMP2305U; Value: DMP2305U
footprint SOT23-3 (SOT23, 3-Leads, Body 3,0x2,5mm (max), Pitch 0,95mm, IPC Low Density)
pins: 1 G, 2 S, 3 D

## DMT2004UFDF
designator Q?  (value not drawn)
N-CHANNEL ENHANCEMENT MODE MOSFET
footprint U-DFN2020-6
pins: 1 D, 2 D, 3 G, 4 S, 5 D, 6 D, 7 D, 8 S

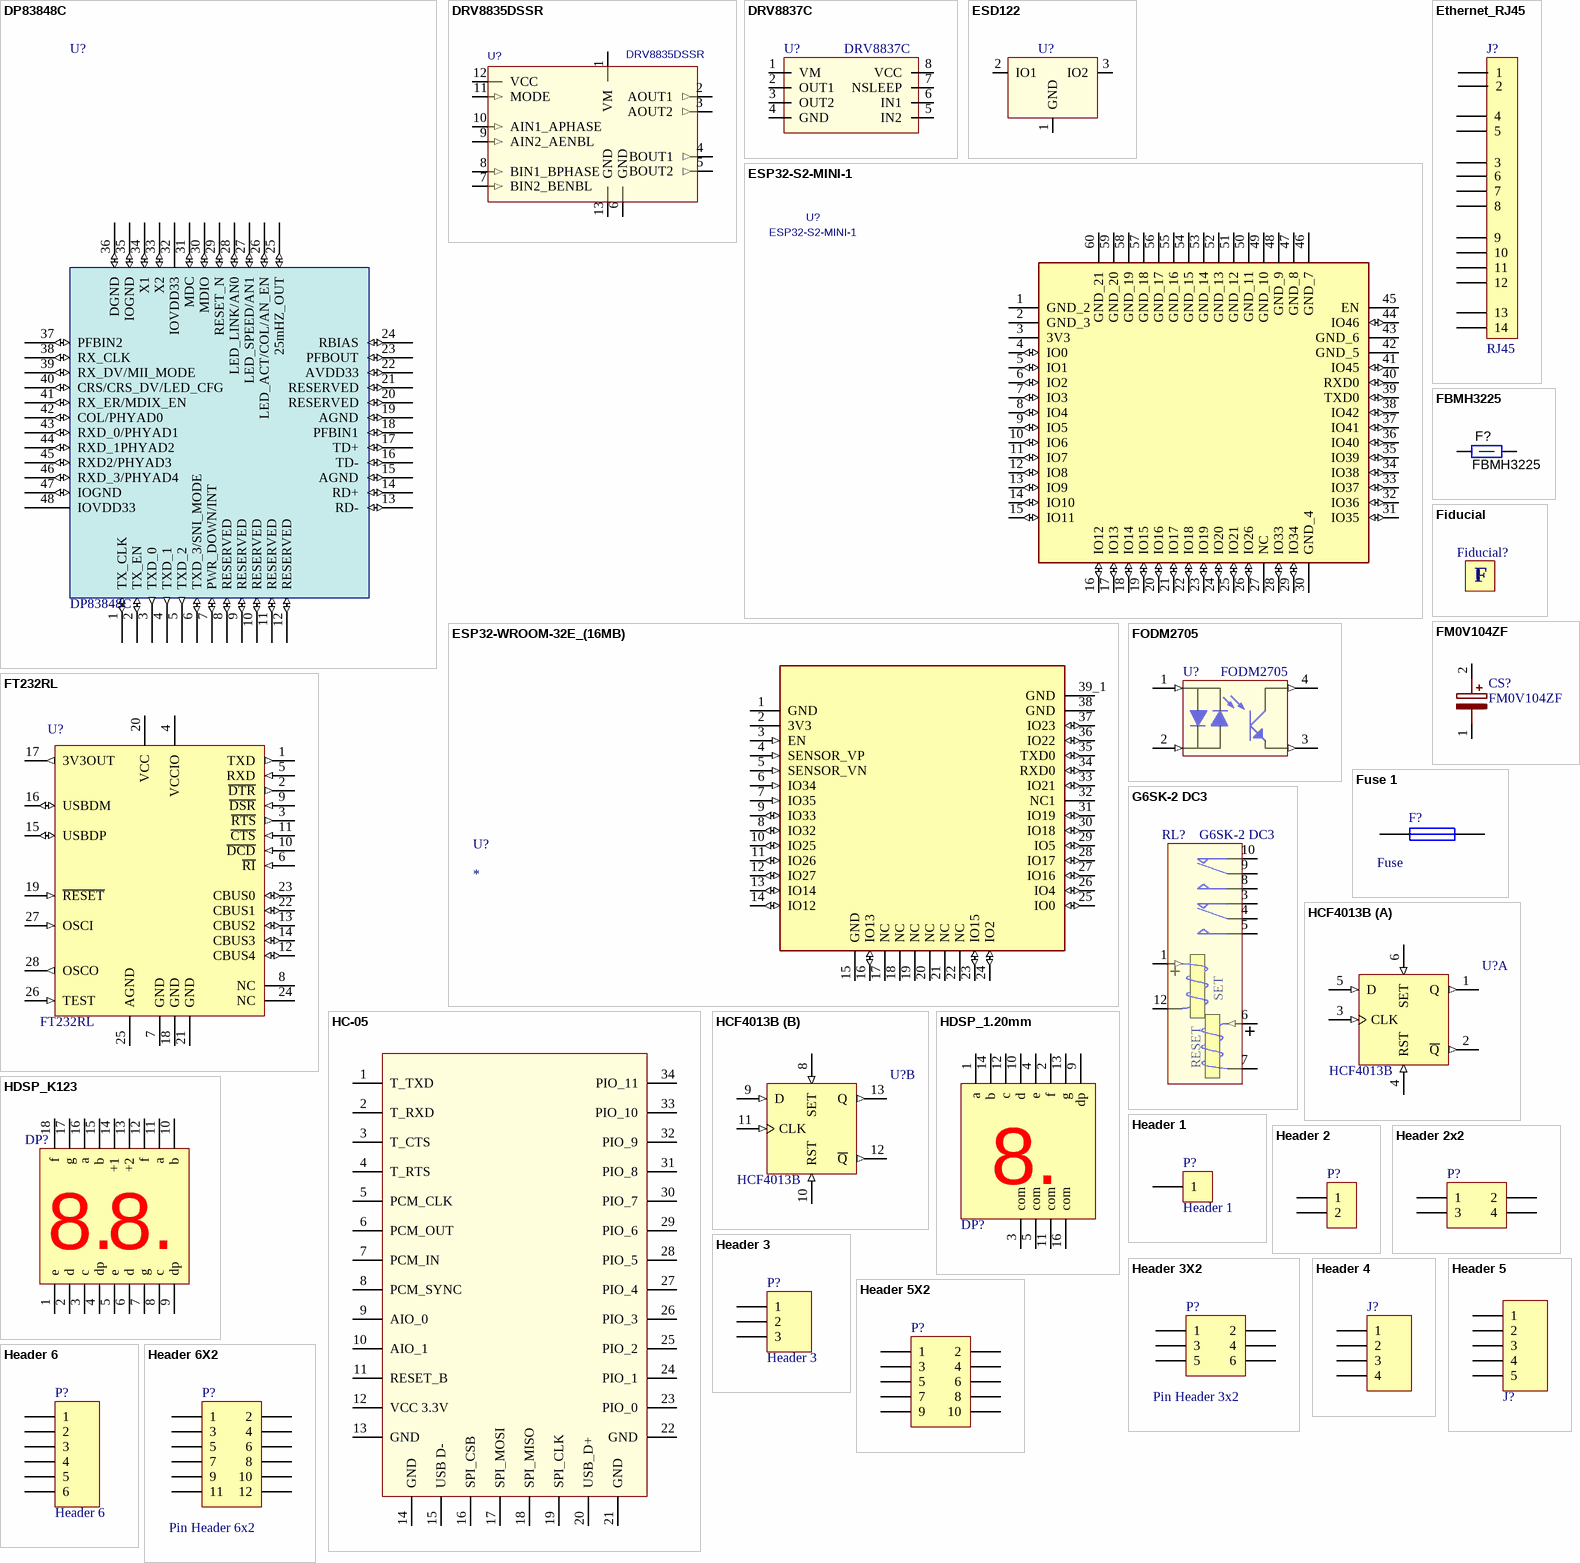
[diagram p3: symbols DP83848C to Header 6X2]

## DP83848C
designator U?
Single Port 10/100 Mb/s Ethernet Physical Layer Transceiver; Value: DP83848C; ComponentLink2Description: SMD; ComponentLink3Description: *
footprint LQFP48 (LQFP, 48-Leads, Body 9,1x9,1mm (max), Pitch 0,50mm, IPC Medium Density)
pins: 1 TX_CLK (io), 2 TX_EN (io), 3 TXD_0 (out), 4 TXD_1 (out), 5 TXD_2 (out), 6 TXD_3/SNI_MODE (io), 7 PWR_DOWN/INT (io), 8 RESERVED (io), 9 RESERVED (io), 10 RESERVED (io), 11 RESERVED (io), 12 RESERVED (io), 13 RD- (io), 14 RD+ (io), 15 AGND (io), 16 TD- (io), 17 TD+ (io), 18 PFBIN1 (io), 19 AGND (io), 20 RESERVED (io), 21 RESERVED (io), 22 AVDD33 (io), 23 PFBOUT (io), 24 RBIAS (io), 25 25mHZ_OUT (io), 26 LED_ACT/COL/AN_EN (io), 27 LED_SPEED/AN1 (io), 28 LED_LINK/AN0 (io), 29 RESET_N (io), 30 MDIO (io), 31 MDC (io), 32 IOVDD33 (power), 33 X2 (io), 34 X1 (io), 35 IOGND (io), 36 DGND (io), 37 PFBIN2 (io), 38 RX_CLK (io), 39 RX_DV/MII_MODE (io), 40 CRS/CRS_DV/LED_CFG (io), 41 RX_ER/MDIX_EN (io), 42 COL/PHYAD0 (io), 43 RXD_0/PHYAD1 (io), 44 RXD_1PHYAD2 (io), 45 RXD2/PHYAD3 (io), 46 RXD_3/PHYAD4 (io), 47 IOGND (io), 48 IOVDD33 (power)

## DRV8835DSSR
designator U?
IC MTR DRVR BIPOLAR 2-7V 12WSON; Detailed: DRV8835DSSR
footprint DSS0012A
pins: 1 VM (power), 2 AOUT1 (out), 3 AOUT2 (out), 4 BOUT1 (out), 5 BOUT2 (out), 6 GND (power), 7 BIN2_BENBL (in), 8 BIN1_BPHASE (in), 9 AIN2_AENBL (in), 10 AIN1_APHASE (in), 11 MODE (in), 12 VCC (power), 13 GND (power)

## DRV8837C
designator U?
Motor Driver NMOS PWM 8-WSON (2x2)
footprint DSG (S_PWSON_N8)
pins: 1 VM, 2 OUT1, 3 OUT2, 4 GND, 5 IN2, 6 IN1, 7 NSLEEP, 8 VCC

## ESD122
designator U?  (value not drawn)
ESD122 2-Channel ESD Protection Diode for USB Type-C and HDMI 2.0; Manufacturer Part Number: ESD122DMYR; Manufacturer: Texas Instruments; Digi-Key Part Number: 296-47120-2-ND
footprint DMX0003A (X2SON - 0.4 mm max height)
pins: 1 GND, 2 IO1, 3 IO2

## ESP32-S2-MINI-1
designator U?
C: Copyright (C) 2018 Accelerated Designs. All rights reserved; Vendor: Espressif Systems; Built_By: EMA_Kyle; SourceLibrary: Add_to_database_2020-11-03; Value: ESP32-S2-MINI-1; Datasheet: https://www.espressif.com/sites/default/files/documentation/esp32-s2-mini-1_esp32-s2-mini-1u_datasheet_en.pdf; Manufacturer_Part_Number: ESP32-S2-MINI-1; Copyright: Copyright (C) 2018 Accelerated Designs. All rights reserved
footprint QFN60_ESP32-S2-M
pins: 1 GND_2 (power), 2 GND_3 (power), 3 3V3, 4 IO0 (io), 5 IO1 (io), 6 IO2 (io), 7 IO3 (io), 8 IO4 (io), 9 IO5 (io), 10 IO6 (io), 11 IO7 (io), 12 IO8 (io), 13 IO9 (io), 14 IO10 (io), 15 IO11 (io), 16 IO12 (io), 17 IO13 (io), 18 IO14 (io), 19 IO15 (io), 20 IO16 (io), 21 IO17 (io), 22 IO18 (io), 23 IO19 (io), 24 IO20 (io), 25 IO21 (io), 26 IO26 (io), 27 NC, 28 IO33 (io), 29 IO34 (io), 30 GND_4 (power), 31 IO35 (io), 32 IO36 (io), 33 IO37 (io), 34 IO38 (io), 35 IO39 (io), 36 IO40 (io), 37 IO41 (io), 38 IO42 (io), 39 TXD0 (io), 40 RXD0 (io), 41 IO45 (io), 42 GND_5 (power), 43 GND_6 (power), 44 IO46 (io), 45 EN, 46 GND_7 (power), 47 GND_8 (power), 48 GND_9 (power), 49 GND_10 (power), 50 GND_11 (power), 51 GND_12 (power), 52 GND_13 (power), 53 GND_14 (power), 54 GND_15 (power), 55 GND_16 (power), 56 GND_17 (power), 57 GND_18 (power), 58 GND_19 (power), 59 GND_20 (power), 60 GND_21 (power), 61 GND_22 (power), 62 GND_23 (power), 63 GND_24 (power), 64 GND_25 (power), 65 GND_26 (power), 66 GND_27 (power), 67 GND_28 (power), 68 GND_29 (power), 69 GND_30 (power), 70 GND_31 (power), 71 GND_32 (power), 72 GND_33 (power), 73 GND (power)

## ESP32-WROOM-32E_(16MB)
designator U?
Bluetooth, WiFi 802.11b/g/n, Bluetooth v4.2 +EDR, Class 1, 2 and 3 Transceiver Module 2.4GHz ~ 2.5GHz Integrated, Trace Surface Mount; MP: ESP32-WROOM-32E (16MB); MF: Espressif Systems; Value: *; SnapEDA_Link: https://www.snapeda.com/parts/ESP32-WROOM-32E%20(16MB)/Espressif%20Systems/view-part/4792564/?ref=snap; Check_prices: https://www.snapeda.com/parts/ESP32-WROOM-32E%20(16MB)/Espressif%20Systems/view-part/4792564/?ref=eda; Availability: Unavailable; Price: None; Package: None
footprint MODULE_ESP32-WROOM-32E_(16MB)
pins: 1 GND (power), 2 3V3 (power), 3 EN (in), 4 SENSOR_VP (in), 5 SENSOR_VN (in), 6 IO34 (in), 7 IO35 (in), 8 IO32 (io), 9 IO33 (io), 10 IO25 (io), 11 IO26 (io), 12 IO27 (io), 13 IO14 (io), 14 IO12 (io), 15 GND (power), 16 IO13 (io), 17 NC, 18 NC, 19 NC, 20 NC, 21 NC, 22 NC, 23 IO15 (io), 24 IO2 (io), 25 IO0 (io), 26 IO4 (io), 27 IO16 (io), 28 IO17 (io), 29 IO5 (io), 30 IO18 (io), 31 IO19 (io), 32 NC1, 33 IO21 (io), 34 RXD0 (io), 35 TXD0 (io), 36 IO22 (io), 37 IO23 (io), 38 GND (power), 39_1 GND (power), 39_2 GND (power) hidden, 39_3 GND (power) hidden, 39_4 GND (power) hidden, 39_5 GND (power) hidden, 39_6 GND (power) hidden, 39_7 GND (power) hidden, 39_8 GND (power) hidden, 39_9 GND (power) hidden, 39_10 GND (power) hidden, 39_11 GND (power) hidden, 39_12 GND (power) hidden, 39_13 GND (power) hidden, 39_14 GND (power) hidden, 39_15 GND (power) hidden, 39_16 GND (power) hidden, 39_17 GND (power) hidden, 39_18 GND (power) hidden, 39_19 GND (power) hidden, 39_20 GND (power) hidden, 39_21 GND (power) hidden

## Ethernet_RJ45
designator J?  (value not drawn)
Ethernet_Connector; Value: Ethernet_RJ45; ComponentLink2Description: AX
footprint RJ45_Magnets (Chip Resistor, Body 3.1x1.6mm, IPC High Density)
pins: 1, 2, 3, 4, 5, 6, 7, 8, 9, 10, 11, 12, 13, 14
text: RJ45

## FBMH3225
designator F?
BEAD FERRITE; Value: FBMH3225
footprint F.1210 (Chip Inductor, 2-Leads, Body 3,20x2,50mm, IPC Medium Density)
pins: 1, 2

## Fiducial
designator Fiducial?, comment Fidicual  (value not drawn)  (no BOM)
Fiducial; Value: Fidicual
footprint Fiducial (Electrolitic Radial Capacitor, 5mm pin space, 0.8mm Hole, 10.1mm diametre, 15.2 height)
text: F

## FM0V104ZF
designator CS?
100mF (EDLC) Supercapacitor
footprint FM_Series_SuperCap (FM Series Supercapacitors (EDLCs))
pins: 1 - (oc), 2 + (oc)

## FODM2705
designator U?
Transistor Output Optocoupler; Value: FODM2705
footprint SMD-4_GullWing
pins: 1 (in), 2 (in), 3 (out), 4 (out)

## FT232RL
designator U?
USB UART Asynchronous Serial Data Transfer Chip, SSOP-28; Producer: FTDI; Value: FT232RL
footprint SSOP.28_MD (SSOP, 28-Leads, Body 10,5x5,6mm (max), Pitch 0,65mm, IPC Medium Density)
footprint SSOP.28_LD (SOP, 28-Leads, Body 10.5x5.6mm (max), Pitch 0.65mm, IPC Low Density)
pins: 1 TXD (out), 2 ~{DTR} (out), 3 ~{RTS} (out), 4 VCCIO (power), 5 RXD (in), 6 ~{RI} (in), 7 GND (power), 8 NC, 9 ~{DSR} (in), 10 ~{DCD} (in), 11 ~{CTS} (in), 12 CBUS4 (io), 13 CBUS2 (io), 14 CBUS3 (io), 15 USBDP (io), 16 USBDM (io), 17 3V3OUT (out), 18 GND (power), 19 ~{RESET} (in), 20 VCC (power), 21 GND (power), 22 CBUS1 (io), 23 CBUS0 (io), 24 NC, 25 AGND (power), 26 TEST (in), 27 OSCI (in), 28 OSCO (out)

## Fuse 1
designator F?, comment Fuse
Published: 8-Jun-2000; LatestRevisionDate: 17-Jul-2002; LatestRevisionNote: Re-released for DXP Platform.; PackageReference: PIN-W2/E2.8; Publisher: Altium Limited; PackageDescription: Thru-Hole; 2 Leads; ComponentLink2Description: SMD; ComponentLink3Description: ESIMF110/16-2; Value: Fuse
simulation model FUSE (Spice Subcircuit)
footprint L_1812 (SMD fuse)
footprint Littelfuse_PTC (POLY-FUSE  ®  Resettable PTCs)
footprint L_2920 (SMD fuse)
pins: 1, 2

## G6SK-2 DC3
designator RL?
RELAY TELECOM DPDT 2A 3VDC
footprint G6SK-2
footprint G6SK-2F
pins: 1 T1 (in), 3 NC_1, 4 COM_1, 5 NO_1, 6 T1 (in), 7 T2, 8 NO_2, 9 COM_2, 10 NC_2, 12 T2
text: SET; RESET

## HC-05
designator B?, comment HC-05 MODUL  (value not drawn)
footprint HC-05 (HC-31 BLUETOOTH 2.0 MODULE -BC417)
pins: 1 T_TXD , 2 T_RXD , 3 T_CTS , 4 T_RTS , 5 PCM_CLK, 6 PCM_OUT, 7 PCM_IN, 8 PCM_SYNC, 9 AIO_0, 10 AIO_1, 11 RESET_B, 12 VCC 3.3V, 13 GND, 14 GND, 15 USB D-, 16 SPI_CSB, 17 SPI_MOSI, 18 SPI_MISO, 19 SPI_CLK, 20 USB_D+, 21 GND, 22 GND, 23 PIO_0, 24 PIO_1, 25 PIO_2, 26 PIO_3, 27 PIO_4, 28 PIO_5, 29 PIO_6, 30 PIO_7, 31 PIO_8, 32 PIO_9, 33 PIO_10, 34 PIO_11

## HCF4013B
designator U?
Dual D-Type Flip-Flop; Producer: ST; ComponentLink2Description: SMD; ComponentLink3Description: EICHCF4013B; Value: HCF4013B
3D model SO14 (PCB3D Model)
simulation model HCF4013 (SIMCODE)
footprint SOIC14 (SOIC, 14-Leads, Body 8,8x4,0mm (max), Pitch 1,27mm, IPC Low Density)
pins on every part: 7 GND (power) hidden to GND, 14 VDD (power) hidden to VDD
part A pins: 1 Q (out), 2 ~{Q} (out), 3 CLK (in), 4 RST (in), 5 D (in), 6 SET (in)
part B pins: 8 SET (in), 9 D (in), 10 RST (in), 11 CLK (in), 12 ~{Q} (out), 13 Q (out)

## HDSP_1.20mm
designator DP?, comment Single Seven Segment  (value not drawn)
Tekli Seven Segment, 20mmx28mm; Value: Single Seven Segment; ComponentLink2Description: AX; ComponentLink3Description: EDSPMEB
footprint DP_20mm
pins: 1 a, 2 f, 3 com, 4 e, 5 com, 9 dp, 10 d, 11 com, 12 c, 13 g, 14 b, 16 com
text: 8; .

## HDSP_K123
designator DP?, comment Dual Seven Segment  (value not drawn)
2 li Seven Segment, 25mmx19mm; Value: Dual Seven Segment; ComponentLink2Description: AX; ComponentLink3Description: EDSPMEB
footprint HDSP-K123_LEDTECH
pins: 1 e, 2 d, 3 c, 4 dp, 5 e, 6 d, 7 g, 8 c, 9 dp, 10 b, 11 a, 12 f, 13 +2, 14 +1, 15 b, 16 a, 17 g, 18 f
text: .

## Header 1
designator P?
Header, 1-Pin; LatestRevisionDate: 17-Jul-2002; LatestRevisionNote: Re-released for DXP Platform.; Publisher: Altium Limited; Value: Header 1; ComponentLink2Description: AX; ComponentLink3Description: EKONPHE
signal-integrity model Connector
footprint HDR1 (Connector; Header; 1 Position)
pins: 1

## Header 2
designator P?, comment Pin Header 2x1  (value not drawn)
Header, 2-Pin; Value: Pin Header 2x1; ComponentLink2Description: AX; ComponentLink3Description: EKONPHE
footprint HDR2 (Connector; Header; 2 Position)
pins: 1, 2

## Header 2x2
designator P?, comment Pin Header 2x2  (value not drawn)
Header, 2-Pin, Dual row; Value: Pin Header 2x2; ComponentLink2Description: AX; ComponentLink3Description: EKONPHE
footprint HDR2X2 (Connector; Header; 2x2 Position)
pins: 1, 2, 3, 4

## Header 3
designator P?
Header, 3-Pin; Value: Header 3
footprint HDR3 (Connector; Header; 3 Position)
footprint HDR3 - WIDE (Connector; Header; 3 Position)
pins: 1, 2, 3

## Header 3X2
designator P?, comment Pin Header 3x2
Header, 3-Pin, Dual row; Value: Pin Header 3x2
footprint HDR2X3 (Connector; Header; 3x2 Position)
signal-integrity model Connector
footprint HDR2X3-2mm (Connector; Header; 3x2 Position)
pins: 1, 2, 3, 4, 5, 6

## Header 4
designator J?  (value not drawn)
Header 4-Pin; Value: Header 4; ComponentLink2Description: AX; ComponentLink3Description: EKONPHE
signal-integrity model Connector
footprint HDR4 (Connector; Header; 4Position)
footprint HDR1X4-1.27mm (Connector; Header; 4 Position; 1.27mm pitch)
footprint HDR4_2.54MM OLED (Connector; Header; 4 Position)
pins: 1, 2, 3, 4

## Header 5
designator J?, comment Header 5x1  (value not drawn)
Header, 5-Pin; ComponentLink2Description: AX; ComponentLink3Description: EKONPHE; Value: Header 5x1
footprint TapExtenderCON5 (Tap Extender'a Kullanılan Konnektor 5pin)
footprint CON5 (4.5mm aralıklı)
footprint HDR1X5 - WIDE (Connector; Header; 5 Position; WIDE)
footprint HDR1X5-1.27mm (Connector; Header; 5 Position; 1.27mm pitch)
pins: 1, 2, 3, 4, 5

## Header 5X2
designator P?, comment Pin Header 5x2  (value not drawn)
Header, 7-Pin, Dual row; Value: Pin Header 5x2; ComponentLink2Description: AX; ComponentLink3Description: EKONPHE
footprint HDR2x5 (Connector; Header; 5x2 Position)
footprint CON5x2 (4.5mm aralıklı)
footprint HDR2x5-1.27mm (Connector; Header; 5x2 Position)
pins: 1, 2, 3, 4, 5, 6, 7, 8, 9, 10

## Header 6
designator P?
Header, 6-Pin; LatestRevisionDate: 17-Jul-2002; LatestRevisionNote: Re-released for DXP Platform.; Publisher: Altium Limited; Value: Header 6; ComponentLink2Description: AX; ComponentLink3Description: EKONPHE
signal-integrity model Connector
footprint HDR6 (Connector; Header; 6 Position)
footprint TapExtenderCON6 (Tap Extender'a Kullanılan Konnektor 6pin)
footprint HDR1X6-1.27mm (Connector; Header; 5 Position; 1.27mm pitch)
pins: 1, 2, 3, 4, 5, 6